# EAGLE library part LM393DR2G (library ON Semiconductor_By_element14_Batch_1)
Low Offset Voltage Dual Comparators
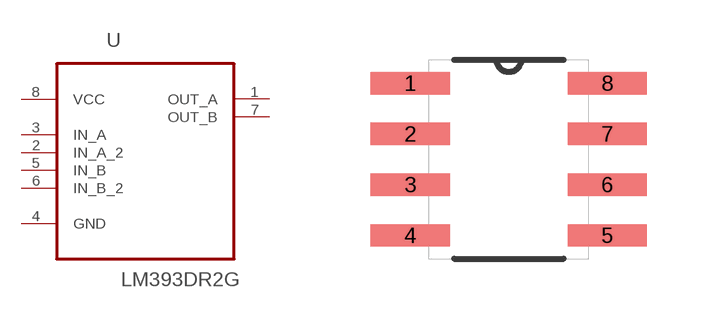
[diagram p67: symbol with the pads of SOIC127P600X175-8N; footprint SOIC127P600X175-8N]

Designator prefix U

## LM393DR2G (MPN: LM393DR2G; OC_FARNELL: 1258876; OC_NEWARK: 88H4662; P1I: o; PACKAGE: SOIC-8; SUPPLIER: ON Semiconductor)  [SOIC127P600X175-8N]
1  OUT_A  out
2  IN_A_2  in
3  IN_A  in
4  GND  pas
5  IN_B  in
6  IN_B_2  in
7  OUT_B  out
8  VCC  pwr

## Footprint SOIC127P600X175-8N (pad centres in mm)
smd 1.981 x 0.559: 1 -2.464,1.905; 2 -2.464,0.635; 3 -2.464,-0.635; 4 -2.464,-1.905; 5 2.464,-1.905; 6 2.464,-0.635; 7 2.464,0.635; 8 2.464,1.905